# EAGLE library part 615006143621 (library 615008185221_Eagle_WR-MJ_rev20b)
WR-MJ Modular Jack Horizontal Plastic 6P6C Tab Down KIND PROPERTIES Quality Class:500 Mating cycles General Information Operating Temperature:-40 up to +85 °C Compliance: RoHS Electrical Properties IR 1:1.5A Working Voltage:120V (AC) Withstanding Voltage:1000V (AC) Contact Resistance:20mΩ RISO:500 MΩ Material Properties Insulator MateriaL:PBT Insulator Flammability Rating:UL94 V-0 Color:Black Contact Material Copper Alloy Contact Plating:Selective Gold Contact Type:Stamped Packaging Properties Packaging:Tray <https://www.we-online.com/catalog/media/o33121v209%20Family_WR-MJ_THT_6P6C_61500X143621.jpg> Details see: https://www.we-online.com/catalog/en/MJ_HORIZONTAL_PLASTIC_6P6C_TAB_DOWN/? Updated by Yingchun,Shan 2020-01-06 2020 (C) Würth Elektronik
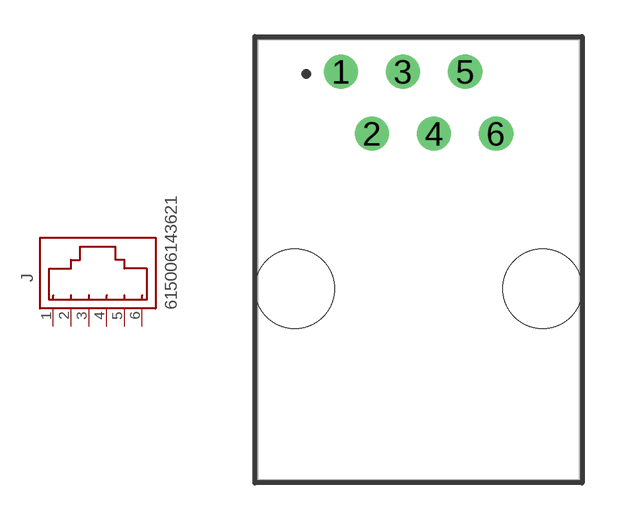
[diagram p45: symbol with the pads of 615006143621; footprint 615006143621]

Designator prefix J

## 615006143621 (DATASHEET-URL: https://www.we-online.com/catalog/datasheet/615006143621.pdf; MOUNT: THT; PART-NUMBER: 615006143621; TYPE: Horizontal; VALUE: 615006143621; XPXC: 6P6C)  [615006143621]
1  6  pas
2  5  pas
3  4  pas
4  3  pas
5  2  pas
6  1  pas

## Footprint 615006143621 (pad centres in mm)
WR-MJ Horizontal Plastic 6P6C Modular Jack Tab Down, 6 Pins
drill 0.9: 1 -3.175,7.71; 2 -1.905,5.17; 3 -0.635,7.71; 4 0.635,5.17; 5 1.905,7.71; 6 3.175,5.17
hole 3.25 at -5.08,-1.18
hole 3.25 at 5.08,-1.18